# Altium schematic symbol library SWARMUS_LIB.SchLib: 181 symbols (part 3 of 4)
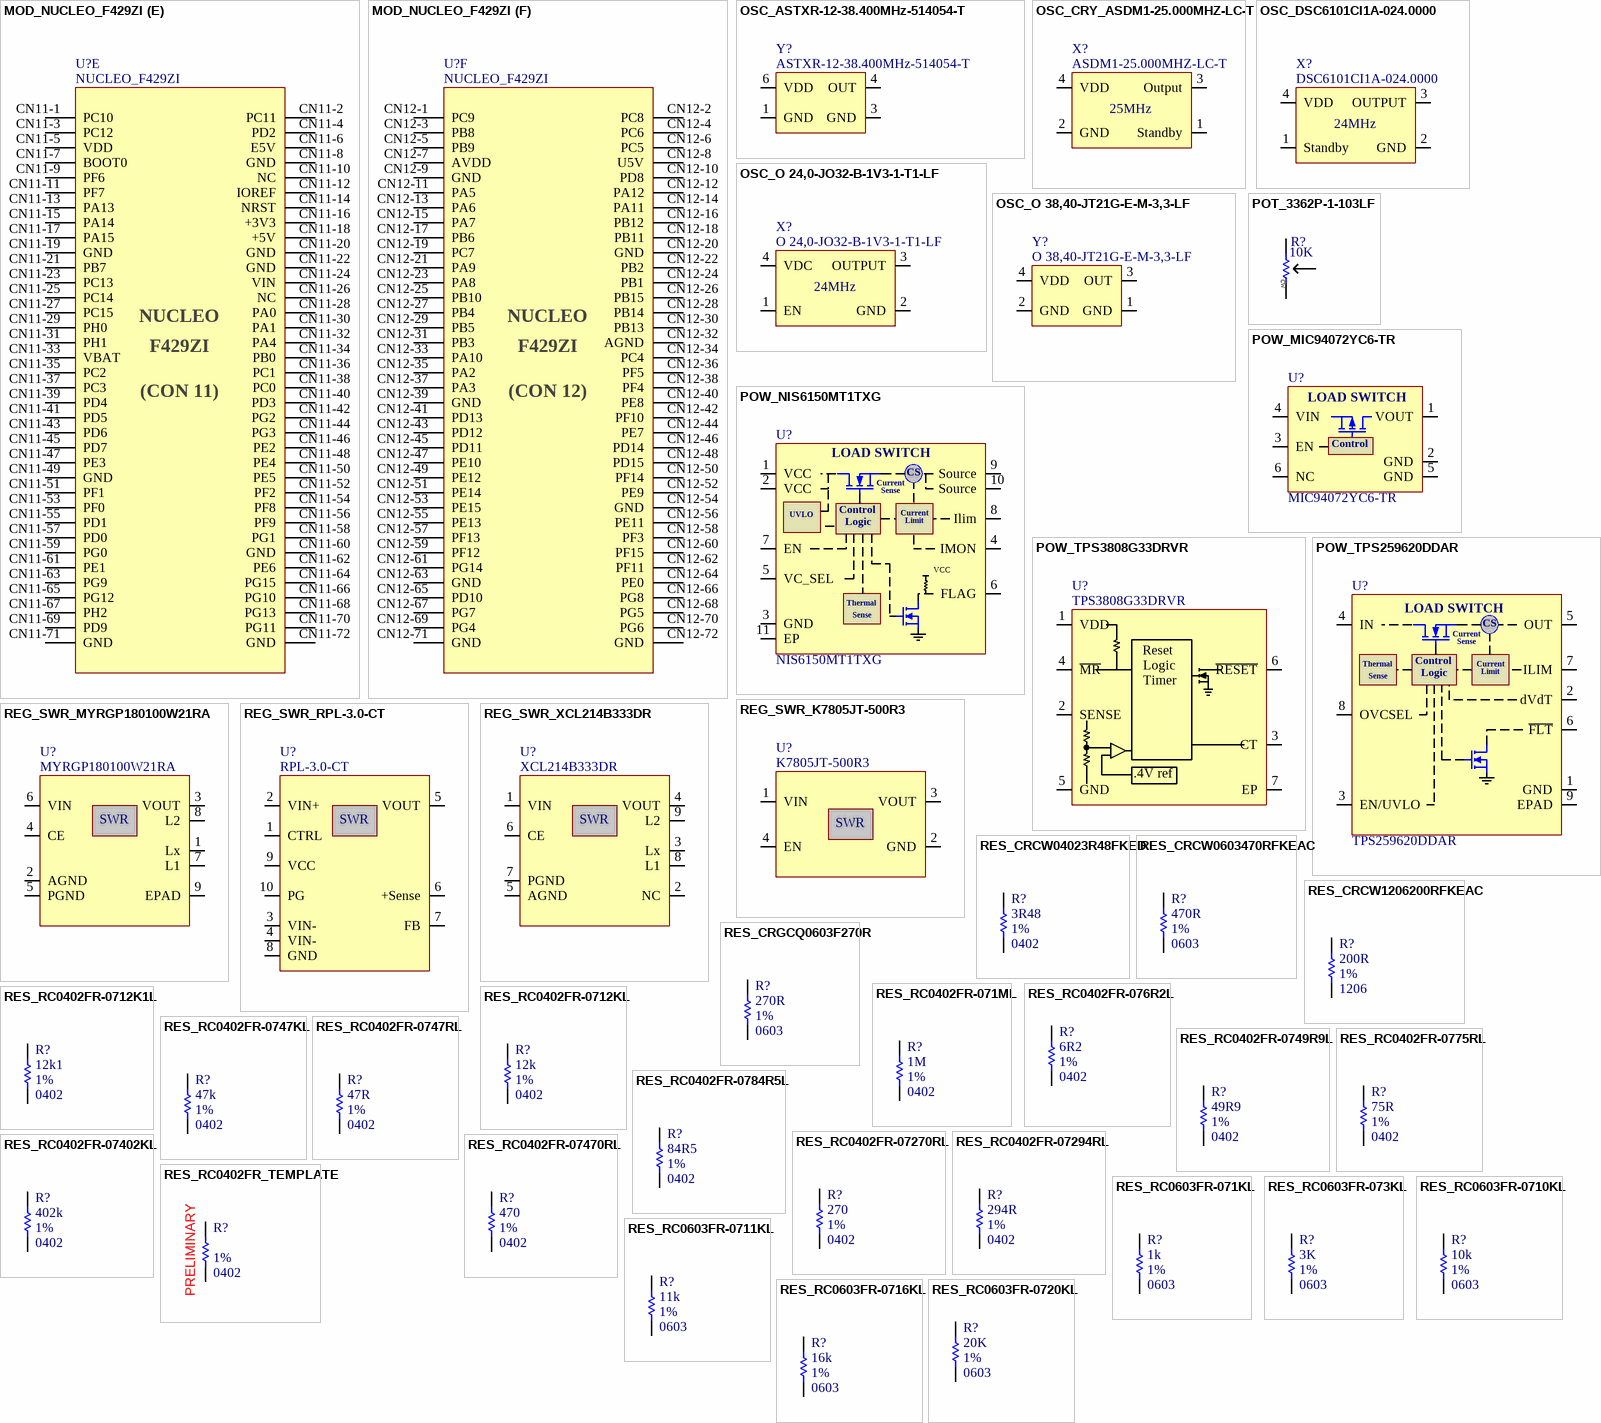
[diagram p8: symbols MOD_NUCLEO_F429ZI to RES_RC0603FR-0720KL]

## POT_3362P-1-103LF
designator R?, comment value 10K  (hidden comment: 3362P-1-103LF)
RES -  POT 10K 1/2W LINEAR PLASTIC 1 turn - TH; Manufacturer #1: Bourns Inc.; GRAMS Lib Spec: 2.8; Tolerance: 10%; Magnetic Material: Unknown; Polarized: YES; Voltage Rating: 500V; Assembly Type: TH; CreatedBy/Date: Louis-Daniel Gaulin / 24-02-2021; Current Rating: *; HelpURL: https://www.bourns.com/docs/Product-Datasheets/3362.pdf; Manufacturer #2: *; Note: *; Part Number #1: 3362P-1-103LF; Part Number #2: *; Power Max: 1/2W; Temperature: *; VerifiedBy: Hubert Dube - 26/02/2021; Supplier 1: Digi-Key; Supplier Part Number 1: 3362P-103LF-ND; Package: TH; Cryo: UNKNOWN
footprint POT_3362P-1-103LF
pins: 1, 2, 3
text: CW

## POW_MIC94072YC6-TR
designator U?, comment MIC94072YC6-TR
POW - Load switch 1.2A 120mOhm 1:1 P-Channel -  SC-70-6; Manufacturer #1: Microship Technology; Voltage Rating: 1.7V ~ 5.5V; GRAMS Lib Spec: 2.8c; Magnetic Material: Unknown; Polarized: Yes; Value: 120mOhm; Tolerance: *; Current Rating: 1.2A; Power Max: *; HelpURL: https://ww1.microchip.com/downloads/en/DeviceDoc/mic94070-3.pdf; CreatedBy/Date: Louis-Daniel Gaulin / 29-04-2021; VerifiedBy: Philippe Arsenault/2021-04-30; Temperature: -40°C ~ 125°C (TA); Package: SC-70-6; Manufacturer #2: *; Assembly Type: SMD; Part Number #2: *; Part Number #1: MIC94072YC6-TR; Cryo: UNKNOWN; Supplier 1: Digi-Key; Supplier Part Number 1: 576-3580-1-ND
footprint POW_MIC94072YC6-TR (SOT23, 6-Leads, Body 2.00x2.10mm, Pitch 0.65mm, IPC Medium Density)
pins: 1 VOUT, 2 GND, 3 EN, 4 VIN, 5 GND, 6 NC
text: LOAD SWITCH; Control

## POW_NIS6150MT1TXG
designator U?, comment NIS6150MT1TXG
POW -  Electronic Fuse Regulator 1A -  10-WDFNW; Manufacturer #1: On Semiconductor; Tolerance: See datasheet; Voltage Rating: -0.3V ~ 10V; GRAMS Lib Spec: 2.8c; Magnetic Material: Uknown; Polarized: Yes; Cryo: UNKNOWN; Value: *; Current Rating: 1A; Power Max: *; HelpURL: https://www.onsemi.com/pdf/datasheet/nis6150-d.pdf; CreatedBy/Date: Louis-Daniel Gaulin / 29-04-2021; VerifiedBy: Philippe Arsenault/2021-04-30; Temperature: -40°C ~ 125°C (TA); Package: 10-WDFNW; Manufacturer #2: *; Assembly Type: SMD; Part Number #2: *; Part Number #1: NIS6150MT1TXG; Supplier 1: DigiKey; Supplier Part Number 1: 488-NIS6150MT1TXGCT-ND
footprint POW_NIS6150MT1TXG (SON, 10-Leads, Body 3.00x3.00mm, Pitch 0.50mm, Thermal Pad 2.00x1.20mm, IPC Medium Density)
pins: 1 VCC, 2 VCC, 3 GND, 4 IMON, 5 VC_SEL, 6 FLAG, 7 EN, 8 Ilim, 9 Source, 10 Source, 11 EP
text: LOAD SWITCH; CS; Current; Sense; UVLO; Control; Logic; Limit; Thermal

## POW_TPS3808G33DRVR
designator U?, comment TPS3808G33DRVR
POW - Programmable-Delay Supervisory Circuit Open Drain - 6WSON; Manufacturer #1: Texas Instruments; Voltage Rating: 1.7V ~ 6.5V (VDD); 3.07V TH; Current Rating: 2.4uA; GRAMS Lib Spec: 2.8; Magnetic Material: Unknown; Polarized: Yes; Value: *; Tolerance: *; Power Max: *; HelpURL: http://www.ti.com/lit/ds/symlink/tps3808.pdf; CreatedBy/Date: Philippe Arsenault/2021-04-19; VerifiedBy: Louis-Daniel Gaulin / 29-04-2021; Temperature: -40°C ~ 125°C; Package: 6-WSON; Manufacturer #2: *; Assembly Type: SMD; Part Number #2: *; Part Number #1: TPS3808G33DRVR; Cryo: UNKNOWN; Supplier 1: Digi-Key; Supplier Part Number 1: 296-36792-1-ND
footprint POW_TPS3808G33DRVR (6-WSON)
pins: 1 VDD, 2 SENSE, 3 CT, 4 ~{MR}, 5 GND, 6 ~{RESET}, 7 EP
text: Reset; Logic; Timer; .4V ref

## POW_TPS259620DDAR
designator U?, comment TPS259620DDAR
POW -  Electronic Fuse Regulator 2A -  8-SOIC PowerPad; Manufacturer #1: Texas Instruments; Tolerance: See datasheet; Voltage Rating: 2.7V ~ 19V; GRAMS Lib Spec: 2.8c; Note: This footprint is compatible with the TPS259621 with no consideration. The footprint is also compatible with the TPS25963x by swaping EVCSEL with OVLO; Magnetic Material: Uknown; Polarized: Yes; Cryo: UNKNOWN; Value: *; Current Rating: 2A; Power Max: *; HelpURL: https://www.ti.com/lit/ds/symlink/tps2596.pdf?HQS=dis-dk-null-digikeymode-dsf-pf-null-wwe&ts=1617021475206; CreatedBy/Date: Louis-Daniel Gaulin / 29-03-2021; VerifiedBy: Philippe Arsenault/2021-03-31; Temperature: -40°C ~ 125°C (TA); Package: 8-SOIC PowerPad; Manufacturer #2: *; Assembly Type: SMD; Part Number #2: *; Part Number #1: TPS259620DDAR; Supplier 1: Digi-Key; Supplier Part Number 1: 296-TPS259620DDARCT-ND
footprint POW_TPS259620DDAR (SOIC, 8-Leads, Body 4.90x3.90mm, Pitch 1.27mm, Thermal Pad 3.10x2.40mm, IPC Medium Density)
pins: 1 GND, 2 dVdT, 3 EN/UVLO, 4 IN, 5 OUT, 6 ~{FLT}, 7 ILIM, 8 OVCSEL, 9 EPAD
text: LOAD SWITCH; CS; Current; Sense; Thermal; Control; Logic; Limit

## REG_SWR_K7805JT-500R3
designator U?, comment K7805JT-500R3
REG_DC DC CONVERTER 5V 2.5W - 4-SMD Module; Manufacturer #1: Mornsun America, LLC; Voltage Rating: 6.5V to 36V IN; Current Rating: 0.5A; GRAMS Lib Spec: 2.8; Magnetic Material: Unknown; Polarized: Yes; Value: 5V; Tolerance: *; Power Max: *; HelpURL: https://www.mornsun-power.com/html/pdf/K7805JT-500R3.html; CreatedBy/Date: Louis-Daniel Gaulin / 25-02-2021; VerifiedBy: Hubert Dube - 26/02/2021; Temperature: -40°C ~ 85°C; Package: 4-SMD Module; Manufacturer #2: *; Note: *; Assembly Type: SMD; Part Number #2: *; Part Number #1: K7805JT-500R3; Supplier 1: Digi-Key; Supplier Part Number 1: 2725-K7805JT-500R3CT-ND; Cryo: UNKNOWN
footprint REG_SWR_K7805JT-500R3
pins: 1 VIN, 2 GND, 3 VOUT, 4 EN
text: SWR

## REG_SWR_MYRGP180100W21RA
designator U?, comment MYRGP180100W21RA
REG_DC DC CONVERTER 1.8V 1.8W_8-PowerTDFN; Manufacturer #1: Murata Power Solutions Inc.; Voltage Rating: 2.5V to 5.5V IN; Current Rating: 1A; GRAMS Lib Spec: 2.8; Magnetic Material: Unknown; Polarized: Yes; Value: 1.8V; Tolerance: *; Power Max: *; HelpURL: https://www.murata.com/products/productdata/8807036026910/MYRGP-b-w.pdf?1583754814000; CreatedBy/Date: Louis-Daniel Gaulin / 21-07-2020; VerifiedBy: Philippe Arsenault/2020-11-06; Temperature: -40°C~105°C; Package: 8-PowerTDFN; Manufacturer #2: *; Note: *; Assembly Type: SMD; Part Number #2: *; Part Number #1: MYRGP180100W21RA; Supplier 1: Digi-Key; Supplier Part Number 1: 811-MYRGP180100W21RACT-ND; Cryo: UNKNOWN
footprint REG_SWR_MYRGP180100W21RA
pins: 1 Lx, 2 AGND, 3 VOUT, 4 CE, 5 PGND, 6 VIN, 7 L1, 8 L2, 9 EPAD
text: SWR

## REG_SWR_RPL-3.0-CT
designator U?, comment RPL-3.0-CT
REG_DC DC CONVERTER 3~18V input 0.8~5.2V output 3A - 10-SMD; Manufacturer #1: Recom Power; Voltage Rating: 3~18V (IN), 0.8~5.2V (OUT); GRAMS Lib Spec: 2.8c; Magnetic Material: Unknown; Polarized: Yes; Value: *; Tolerance: *; Current Rating: 3A; Power Max: *; HelpURL: https://recom-power.com/pdf/Innoline/RPL-3.0.pdf; CreatedBy/Date: Louis-Daniel Gaulin / 11-04-2021; VerifiedBy: Philippe Arsenault/2021-04-14; Temperature: -40°C~125°C; Package: 10-SMD; Manufacturer #2: *; Note: *; Assembly Type: SMD; Part Number #2: *; Part Number #1: Recom Power; Cryo: UNKNOWN; Supplier 1: Digi-Key; Supplier Part Number 1: 945-RPL-3.0-CT-ND
footprint REG_SWR_RPL-3.0-CT
pins: 1 CTRL, 2 VIN+, 3 VIN-, 4 VIN-, 5 VOUT, 6 +Sense, 7 FB, 8 GND, 9 VCC, 10 PG
text: SWR

## REG_SWR_XCL214B333DR
designator U?, comment XCL214B333DR
REG_DC DC CONVERTER 3.3V 5W_9-PowerTFQFN; Manufacturer #1: Torex Semiconductor Ltd; Voltage Rating: 2.7V to 5.5V IN; Current Rating: 1.5A; GRAMS Lib Spec: 2.8; Magnetic Material: Unknown; Polarized: Yes; Value: 3.3V; Tolerance: *; Power Max: *; HelpURL: https://www.torexsemi.com/file/xcl213/XCL213-XCL214.pdf; CreatedBy/Date: Louis-Daniel Gaulin / 21-07-2020; VerifiedBy: Philippe Arsenault/2020-11-06; Temperature: -40°C ~ 105°C; Package: 9-PowerTFQFN; Manufacturer #2: *; Note: *; Assembly Type: SMD; Part Number #2: *; Part Number #1: XCL214B333DR; Supplier 1: Digi-Key; Supplier Part Number 1: 893-1218-1-ND; Cryo: UNKNOWN
footprint REG_SWR_XCL214B333DR
pins: 1 VIN, 2 NC, 3 Lx, 4 VOUT, 5 AGND, 6 CE, 7 PGND, 8 L1, 9 L2
text: SWR

## RES_CRCW04023R48FKED
designator R?, comment value 3R48  Tolerance: 1%  Package: 0402  (hidden comment: CRCW04023R48FKED)
RES - 3.48 R ±1% 1/16W -  0402; Manufacturer #1: Vishay Dale; GRAMS Lib Spec: 2.8c; Magnetic Material: Unknown; Polarized: No; Voltage Rating: 50V; Assembly Type: SMD; CreatedBy/Date: Louis-Daniel Gaulin / 2021-05-01; Current Rating: *; HelpURL: https://www.vishay.com/docs/20035/dcrcwe3.pdf; Manufacturer #2: *; Note: *; Part Number #1: CRCW04023R48FKED; Part Number #2: *; Power Max: 1/16W; Temperature: -55°C ~ 155°C; VerifiedBy: Philippe Arsenault/2021-05-10; Supplier 1: Digi-Key; Supplier Part Number 1: 541-3.48LLCT-ND
footprint RES_0402 (Resistor - 0402)
pins: 1, 2

## RES_CRCW0603470RFKEAC
designator R?, comment value 470R  Tolerance: 1%  Package: 0603  (hidden comment: CRCW0603470RFKEAC)
RES - 470R 1% 1/10W - 0603; Manufacturer #1: Vishay Dale; GRAMS Lib Spec: 2.8; Magnetic Material: Unknown; Polarized: No; Voltage Rating: 75V; Assembly Type: SMD; CreatedBy/Date: Philippe Arsenault/2020-07-14; Current Rating: *; HelpURL: https://www.vishay.com/docs/28773/crcwce3.pdf; Manufacturer #2: *; Note: *; Part Number #1: CRCW0603470RFKEAC; Part Number #2: *; Power Max: 1/10W; Temperature: -55°C ~ 155°C; VerifiedBy: Louis-Daniel Gaulin / 2020-07-22; Supplier 1: Digi-Key; Supplier Part Number 1: 541-4038-1-ND
footprint RES_0603 (Resistor - 0603)
pins: 1, 2

## RES_CRCW1206200RFKEAC
designator R?, comment value 200R  Tolerance: 1%  Package: 1206  (hidden comment: CRCW1206200RFKEAC)
RES - 200R 1% 1/4W - 1206; Manufacturer #1: Vishay Dale; GRAMS Lib Spec: 2.8; Magnetic Material: Unknown; Polarized: No; Voltage Rating: 75V; Assembly Type: SMD; CreatedBy/Date: Louis-Daniel Gaulin / 26-02-2021; Current Rating: *; HelpURL: https://www.vishay.com/docs/28773/crcwce3.pdf; Manufacturer #2: *; Note: *; Part Number #1: CRCW1206200RFKEAC; Part Number #2: *; Power Max: 1/4W; Temperature: -55°C ~ 155°C; VerifiedBy: Hubert Dubé/ 26-02-2021; Supplier 1: Digi-Key; Supplier Part Number 1: 541-4176-1-ND
footprint RES_1206 (Resistor - 1206)
pins: 1, 2

## RES_CRGCQ0603F270R
designator R?, comment value 270R  Tolerance: 1%  Package: 0603  (hidden comment: CRGCQ0603F270R)
RES - 270R 1% 1/10W - 0603; Manufacturer #1: TE Connectivity Passive Product; GRAMS Lib Spec: 2.8; Magnetic Material: Unknown; Polarized: No; Voltage Rating: 75V; Assembly Type: SMD; CreatedBy/Date: Philippe Arsenault/2020-07-22; Current Rating: *; HelpURL: https://www.te.com/commerce/DocumentDelivery/DDEController?Action=srchrtrv&DocNm=1773204-3&DocType=DS&DocLang=English; Manufacturer #2: *; Note: *; Part Number #1: CRGCQ0603F270R; Part Number #2: *; Power Max: 1/10W; Temperature: -55°C ~ 155°C; VerifiedBy: Louis-Daniel Gaulin / 2020-07-23; Supplier 1: Digi-Key; Supplier Part Number 1: A129681CT-ND
footprint RES_0603 (Resistor - 0603)
pins: 1, 2

## RES_RC0402FR-071ML
designator R?, comment value 1M  Tolerance: 1%  Package: 0402  (hidden comment: RC0402FR-071ML)
RES - 1 MOhms ±1% 0.063W, 1/16W Chip Resistor 0402 (1005 Metric) Moisture Resistant Thick Film; Manufacturer #1: Yageo; GRAMS Lib Spec: 2.8c; Magnetic Material: Unknown; Polarized: No; Voltage Rating: 50V; Assembly Type: SMD; CreatedBy/Date: Hubert Dube 16/03/2021; Current Rating: *; HelpURL: https://www.yageo.com/upload/media/product/productsearch/datasheet/rchip/PYu-RC_Group_51_RoHS_L_11.pdf; Manufacturer #2: *; Note: *; Part Number #1: RC0402FR-071ML; Part Number #2: *; Power Max: 1/16W; Temperature: -55°C ~ 155°C; VerifiedBy: Philippe Arsenault - 2021/03/16; Supplier 1: Digi-Key; Supplier Part Number 1: 311-1.00MLRCT-ND
footprint RES_0402 (Resistor - 0402)
pins: 1, 2

## RES_RC0402FR-076R2L
designator R?, comment value 6R2  Tolerance: 1%  Package: 0402  (hidden comment: RC0402FR-076R2L)
RES - 6.2R 1% 1/16W - 0402; Manufacturer #1: Yageo; Part Number #1: RC0402JR-076R2L; GRAMS Lib Spec: 2.8c; Magnetic Material: Unknown; Polarized: No; Voltage Rating: 50V; Assembly Type: SMD; CreatedBy/Date: Hubert Dubé 04/10/2020; Current Rating: *; HelpURL: https://www.yageo.com/upload/media/product/productsearch/datasheet/rchip/PYu-RC_Group_51_RoHS_L_11.pdf; Manufacturer #2: *; Note: *; Part Number #2: *; Power Max: 1/16W; Temperature: -55°C ~ 155°C; VerifiedBy: Louis-Daniel Gaulin - 09/11/2020; Supplier 1: Digi-Key; Supplier Part Number 1: 13-RC0402FR-076R2LCT-ND
footprint RES_0402 (Resistor - 0402)
pins: 1, 2

## RES_RC0402FR-0712K1L
designator R?, comment value 12k1  Tolerance: 1%  Package: 0402  (hidden comment: RC0402FR-0712K1L)
RES - 12K1 ±1% 1/16W - 0402; Manufacturer #1: Yageo; GRAMS Lib Spec: 2.8c; Magnetic Material: Unknown; Polarized: No; Voltage Rating: 50V; Assembly Type: SMD; CreatedBy/Date: Hubert Dubé - 7/02/2020; Current Rating: *; HelpURL: https://www.yageo.com/upload/media/product/productsearch/datasheet/rchip/PYu-RC_Group_51_RoHS_L_11.pdf; Manufacturer #2: *; Note: *; Part Number #1: RC0402FR-0712K1L; Part Number #2: *; Power Max: 1/16W; Temperature: -55°C ~ 155°C; VerifiedBy: Philippe Arsenault/2021-02-08; Supplier 1: Digi-Key; Supplier Part Number 1: 311-12.1KLRCT-ND
footprint RES_0402 (Resistor - 0402)
pins: 1, 2

## RES_RC0402FR-0712KL
designator R?, comment value 12k  Tolerance: 1%  Package: 0402  (hidden comment: RC0402FR-0712KL)
RES - 12k Ohms ±1% 0.063W, 1/16W Chip Resistor 0402 (1005 Metric) Moisture Resistant Thick Film; Manufacturer #1: Yageo; GRAMS Lib Spec: 2.8c; Magnetic Material: Unknown; Polarized: No; Voltage Rating: 50V; Assembly Type: SMD; CreatedBy/Date: Philippe Arsenault/2021-03-11; Current Rating: *; HelpURL: https://www.yageo.com/upload/media/product/productsearch/datasheet/rchip/PYu-RC_Group_51_RoHS_L_11.pdf; Manufacturer #2: *; Note: *; Part Number #1: RC0402FR-0712KL; Part Number #2: *; Power Max: 1/16W; Temperature: -55°C ~ 155°C; VerifiedBy: Hubert Dube - 19/03/2021; Supplier 1: Digi-Key; Supplier Part Number 1: 311-12.0KLRCT-ND
footprint RES_0402 (Resistor - 0402)
pins: 1, 2

## RES_RC0402FR-0747KL
designator R?, comment value 47k  Tolerance: 1%  Package: 0402  (hidden comment: RC0402FR-0747KL)
RES - 47k ±1% 1/16W - 0402; Manufacturer #1: Yageo; GRAMS Lib Spec: 2.8; Magnetic Material: Unknown; Polarized: No; Voltage Rating: 50V; Assembly Type: SMD; CreatedBy/Date: Louis-Daniel Gaulin / 11-04-2021; Current Rating: *; HelpURL: https://www.yageo.com/upload/media/product/productsearch/datasheet/rchip/PYu-RC_Group_51_RoHS_L_11.pdf; Manufacturer #2: *; Note: *; Part Number #1: RC0402FR-0747KL; Part Number #2: *; Power Max: 1/16W; Temperature: -55°C ~ 155°C; VerifiedBy: Philippe Arsenault/2021-04-14; Supplier 1: Digi-Key; Supplier Part Number 1: 311-47.0KLRCT-ND
footprint RES_0402 (Resistor - 0402)
pins: 1, 2

## RES_RC0402FR-0747RL
designator R?, comment value 47R  Tolerance: 1%  Package: 0402  (hidden comment: RC0402FR-0747RL)
RES -  47ohm ±1% 0.063W, 1/16W Chip Resistor 0402; Manufacturer #1: Yageo; GRAMS Lib Spec: 2.8; Magnetic Material: Unknown; Polarized: No; Voltage Rating: 50V; Assembly Type: SMD; CreatedBy/Date: Philippe Arsenault/2021-04-10; Current Rating: *; HelpURL: https://www.yageo.com/upload/media/product/productsearch/datasheet/rchip/PYu-RC_Group_51_RoHS_L_11.pdf; Manufacturer #2: *; Note: *; Part Number #1: RC0402FR-0747RL; Part Number #2: *; Power Max: 1/16W; Temperature: -55°C ~ 155°C; VerifiedBy: Louis-Daniel Gaulin / 14-04-2021; Supplier 1: Digi-Key; Supplier Part Number 1: 311-47.0LRCT-ND
footprint RES_0402 (Resistor - 0402)
pins: 1, 2

## RES_RC0402FR-0749R9L
designator R?, comment value 49R9  Tolerance: 1%  Package: 0402  (hidden comment: RC0402FR-0749R9L)
RES - 49.9 R ±1% 1/16W -  0402; Manufacturer #1: Yageo; GRAMS Lib Spec: 2.8c; Magnetic Material: Unknown; Polarized: No; Voltage Rating: 50V; Assembly Type: SMD; CreatedBy/Date: Hubert Dubé - 3/02/2020; Current Rating: *; HelpURL: https://www.yageo.com/upload/media/product/productsearch/datasheet/rchip/PYu-RC_Group_51_RoHS_L_11.pdf; Manufacturer #2: *; Note: *; Part Number #1: RC0402FR-0749R9L; Part Number #2: *; Power Max: 1/16W; Temperature: -55°C ~ 155°C; VerifiedBy: Philippe Arsenault/2021-02-08; Supplier 1: Digi-Key; Supplier Part Number 1: 311-49.9LRCT-ND
footprint RES_0402 (Resistor - 0402)
pins: 1, 2

## RES_RC0402FR-0775RL
designator R?, comment value 75R  Tolerance: 1%  Package: 0402  (hidden comment: RC0402FR-0775RL)
RES - 75 Ohms ±1% 0.063W, 1/16W Chip Resistor 0402 (1005 Metric); Manufacturer #1: Yageo; GRAMS Lib Spec: 2.8c; Magnetic Material: Unknown; Polarized: No; Voltage Rating: 50V; Assembly Type: SMD; CreatedBy/Date: Hubert Dubé - 3/02/2020; Current Rating: *; HelpURL: https://www.yageo.com/upload/media/product/productsearch/datasheet/rchip/PYu-RC_Group_51_RoHS_L_11.pdf; Manufacturer #2: *; Note: *; Part Number #1: RC0402FR-0775RL; Part Number #2: *; Power Max: 1/16W; Temperature: -55°C ~ 155°C; VerifiedBy: Philippe Arsenault/ 8/2/2021; Supplier 1: Digi-Key; Supplier Part Number 1: 311-75.0LRCT-ND
footprint RES_0402 (Resistor - 0402)
pins: 1, 2

## RES_RC0402FR-0784R5L
designator R?, comment value 84R5  Tolerance: 1%  Package: 0402  (hidden comment: RC0402FR-0784R5L)
RES - 84R5 1% 1/16W - 0402; Manufacturer #1: Yageo; GRAMS Lib Spec: 2.8c; Magnetic Material: Unknown; Polarized: No; Voltage Rating: 50V; Assembly Type: SMD; CreatedBy/Date: Philippe Arsenault/ 2021-03-31; Current Rating: *; HelpURL: https://www.yageo.com/upload/media/product/productsearch/datasheet/rchip/PYu-RC_Group_51_RoHS_L_11.pdf; Manufacturer #2: *; Note: *; Part Number #1: RC0402FR-0784R5L; Part Number #2: *; Power Max: 1/16W; Temperature: -55°C ~ 155°C; Supplier 1: Digi-Key; Supplier Part Number 1: YAG3246CT-ND
footprint RES_0402 (Resistor - 0402)
pins: 1, 2

## RES_RC0402FR-07270RL
designator R?, comment value 270  Tolerance: 1%  Package: 0402  (hidden comment: RC0402FR-07270RL)
RES - 270R 1% 1/16W - 0402; Manufacturer #1: Yageo; GRAMS Lib Spec: 2.8c; Magnetic Material: Unknown; Polarized: No; Voltage Rating: 50V; Assembly Type: SMD; CreatedBy/Date: Philippe Arsenault 2020-07-24; Current Rating: *; HelpURL: https://www.yageo.com/upload/media/product/productsearch/datasheet/rchip/PYu-RC_Group_51_RoHS_L_10.pdf; Manufacturer #2: *; Note: *; Part Number #1: RC0402FR-07270RL; Part Number #2: *; Power Max: 1/16W; Temperature: -55°C ~ 155°C; VerifiedBy: Louis-Daniel Gaulin / 03-10-2020; Supplier 1: Digi-Key; Supplier Part Number 1: 311-270LRCT-ND
footprint FER_0402 (Ferrite - 0402)
pins: 1, 2

## RES_RC0402FR-07294RL
designator R?, comment value 294R  Tolerance: 1%  Package: 0402  (hidden comment: RC0402FR-07294RL)
RES - 294 Ohms ±1% 0.063W, 1/16W Chip Resistor 0402 (1005 Metric) Moisture Resistant Thick Film; Manufacturer #1: Yageo; GRAMS Lib Spec: 2.8c; Magnetic Material: Unknown; Polarized: No; Voltage Rating: 50V; Assembly Type: SMD; CreatedBy/Date: Philippe Arsenault/2021-03-11; Current Rating: *; HelpURL: https://www.yageo.com/upload/media/product/productsearch/datasheet/rchip/PYu-RC_Group_51_RoHS_L_11.pdf; Manufacturer #2: *; Note: *; Part Number #1: RC0402FR-07294RL; Part Number #2: *; Power Max: 1/16W; Temperature: -55°C ~ 155°C; VerifiedBy: Hubert Dube - 19/03/2021; Supplier 1: Digi-Key; Supplier Part Number 1: YAG3093CT-ND
footprint RES_0402 (Resistor - 0402)
pins: 1, 2

## RES_RC0402FR-07402KL
designator R?, comment value 402k  Tolerance: 1%  Package: 0402  (hidden comment: RC0402FR-07402KL)
RES - 402k ±1% 1/16W - 0402; Manufacturer #1: Yageo; GRAMS Lib Spec: 2.8c; Magnetic Material: Unknown; Polarized: No; Voltage Rating: 50V; Assembly Type: SMD; CreatedBy/Date: Louis-Daniel Gaulin / 03-31-2021; Current Rating: *; HelpURL: https://www.yageo.com/upload/media/product/productsearch/datasheet/rchip/PYu-RC_Group_51_RoHS_L_11.pdf; Manufacturer #2: *; Note: *; Part Number #1: RC0402FR-07402KL; Part Number #2: *; Power Max: 1/16W; Temperature: -55°C ~ 155°C; VerifiedBy: Philippe Arsenault/2021-03-31; Supplier 1: Digi-Key; Supplier Part Number 1: YAG3151CT-ND
footprint RES_0402 (Resistor - 0402)
pins: 1, 2

## RES_RC0402FR-07470RL
designator R?, comment value 470  Tolerance: 1%  Package: 0402  (hidden comment: RC0402FR-07470RL)
RES - 470R 1% 1/16W - 0402; Manufacturer #1: Yageo; GRAMS Lib Spec: 2.8c; Magnetic Material: Unknown; Polarized: No; Voltage Rating: 50V; Assembly Type: SMD; CreatedBy/Date: Philippe Arsenault 2020-07-24; Current Rating: *; HelpURL: https://www.yageo.com/upload/media/product/productsearch/datasheet/rchip/PYu-RC_Group_51_RoHS_L_10.pdf; Manufacturer #2: *; Note: *; Part Number #1: RC0402FR-07470RL; Part Number #2: *; Power Max: 1/16W; Temperature: -55°C ~ 155°C; VerifiedBy: Louis-Daniel Gaulin / 03-10-2020; Supplier 1: Digi-Key; Supplier Part Number 1: 311-470LRCT-ND
footprint RES_0402 (Resistor - 0402)
pins: 1, 2

## RES_RC0402FR_TEMPLATE
designator R?, comment Tolerance: 1%  Package: 0402  (hidden comment: RC0402FR- XXXXX)
RES - XXXX 1% 1/16W - 0402; Manufacturer #1: Yageo; GRAMS Lib Spec: 2.8c; Magnetic Material: Unknown; Polarized: No; Voltage Rating: 50V; Assembly Type: SMD; CreatedBy/Date: Louis-Daniel Gaulin; Current Rating: *; Manufacturer #2: *; Note: *; Part Number #2: *; Power Max: 1/16W; Temperature: -55°C ~ 155°C; Supplier 1: Digi-Key
footprint RES_0402 (Resistor - 0402)
pins: 1, 2
text: PRELIMINARY

## RES_RC0603FR-071KL
designator R?, comment value 1k  Tolerance: 1%  Package: 0603  (hidden comment: RC0603FR-071KL)
RES - 1k 1% 1/10W - 0603; Manufacturer #1: Yageo; GRAMS Lib Spec: 2.8; Magnetic Material: Unknown; Polarized: No; Voltage Rating: 75V; Assembly Type: SMD; CreatedBy/Date: Hubert Dube / 22-07-21; Current Rating: *; HelpURL: https://www.yageo.com/upload/media/product/productsearch/datasheet/rchip/PYu-RC_Group_51_RoHS_L_11.pdf; Manufacturer #2: *; Note: *; Part Number #1: RC0603FR-071KL; Part Number #2: *; Power Max: 1/10W; Temperature: -55°C ~ 155°C; VerifiedBy: Louis-Daniel Gaulin / 2020-07-23; Supplier 1: Digi-Key; Supplier Part Number 1: 311-1.00KHRCT-ND
footprint RES_0603 (Resistor - 0603)
pins: 1, 2

## RES_RC0603FR-073KL
designator R?, comment value 3K  Tolerance: 1%  Package: 0603  (hidden comment: RC0603FR-073KL)
RES - 3k 1% 1/10W - 0603; Manufacturer #1: Yageo; GRAMS Lib Spec: 2.8; Magnetic Material: Unknown; Polarized: No; Voltage Rating: 75V; Assembly Type: SMD; CreatedBy/Date: Louis-Daniel Gaulin / 24-02-2021; Current Rating: *; HelpURL: https://www.yageo.com/upload/media/product/productsearch/datasheet/rchip/PYu-RC_Group_51_RoHS_L_11.pdf; Manufacturer #2: *; Note: *; Part Number #1: RC0603FR-073KL; Part Number #2: *; Power Max: 1/10W; Temperature: -55°C ~ 155°C; VerifiedBy: Hubert Dube - 26/02/2021; Supplier 1: Digi-Key; Supplier Part Number 1: 311-3.00KHRCT-ND
footprint RES_0603 (Resistor - 0603)
pins: 1, 2

## RES_RC0603FR-0710KL
designator R?, comment value 10k  Tolerance: 1%  Package: 0603  (hidden comment: RC0603FR-0710KL)
RES - 10k 1% 1/10W - 0603; Manufacturer #1: Yageo; GRAMS Lib Spec: 2.8; Magnetic Material: Unknown; Polarized: No; Voltage Rating: 75V; Assembly Type: SMD; CreatedBy/Date: Louis-Daniel Gaulin / 24-02-2021; Current Rating: *; HelpURL: https://www.yageo.com/upload/media/product/productsearch/datasheet/rchip/PYu-RC_Group_51_RoHS_L_11.pdf; Manufacturer #2: *; Note: *; Part Number #1: RC0603FR-0710KL; Part Number #2: *; Power Max: 1/10W; Temperature: -55°C ~ 155°C; VerifiedBy: Hubert Dube - 26/02/2021; Supplier 1: Digi-Key; Supplier Part Number 1: 311-10.0KHRCT-ND
footprint RES_0603 (Resistor - 0603)
pins: 1, 2

## RES_RC0603FR-0711KL
designator R?, comment value 11k  Tolerance: 1%  Package: 0603  (hidden comment: RC0603FR-0711KL)
RES - 11k 1% 1/10W - 0603; Manufacturer #1: Yageo; GRAMS Lib Spec: 2.8; Magnetic Material: Unknown; Polarized: No; Voltage Rating: 75V; Assembly Type: SMD; CreatedBy/Date: Philippe Arsenault/2020-07-14; Current Rating: *; HelpURL: https://www.yageo.com/upload/media/product/productsearch/datasheet/rchip/PYu-RC_Group_51_RoHS_L_10.pdf; Manufacturer #2: *; Note: *; Part Number #1: RC0603FR-0711KL; Part Number #2: *; Power Max: 1/10W; Temperature: -55°C ~ 155°C; VerifiedBy: Louis-Daniel Gaulin / 2020-07-22; Supplier 1: Digi-Key; Supplier Part Number 1: 311-11.0KHRCT-ND
footprint RES_0603 (Resistor - 0603)
pins: 1, 2

## RES_RC0603FR-0716KL
designator R?, comment value 16k  Tolerance: 1%  Package: 0603  (hidden comment: RC0603FR-0716KL)
RES - 16k 1% 1/10W - 0603; Manufacturer #1: Yageo; GRAMS Lib Spec: 2.8; Magnetic Material: Unknown; Polarized: No; Voltage Rating: 75V; Assembly Type: SMD; CreatedBy/Date: Philippe Arsenault/2020-07-22; Current Rating: *; HelpURL: https://www.yageo.com/upload/media/product/productsearch/datasheet/rchip/PYu-RC_Group_51_RoHS_L_10.pdf; Manufacturer #2: *; Note: *; Part Number #1: RC0603FR-0716KL; Part Number #2: *; Power Max: 1/10W; Temperature: -55°C ~ 155°C; VerifiedBy: Louis-Daniel Gaulin / 2020-07-23; Supplier 1: Digi-Key; Supplier Part Number 1: 311-16.0KHRCT-ND
footprint RES_0603 (Resistor - 0603)
pins: 1, 2

## RES_RC0603FR-0720KL
designator R?, comment value 20K  Tolerance: 1%  Package: 0603  (hidden comment: RC0603FR-0720KL)
RES - 20K 1% 1/10W - 0603; Manufacturer #1: Yageo; GRAMS Lib Spec: 2.8; Magnetic Material: Unknown; Polarized: No; Voltage Rating: 75V; Assembly Type: SMD; CreatedBy/Date: Hubert Dube / 20-07-20; Current Rating: *; HelpURL: https://www.yageo.com/upload/media/product/productsearch/datasheet/rchip/PYu-RC_Group_51_RoHS_L_11.pdf; Manufacturer #2: *; Note: *; Part Number #1: RC0603FR-0720KL; Part Number #2: *; Power Max: 1/10W; Temperature: -55°C ~ 155°C; VerifiedBy: Louis-Daniel Gaulin - 21/07/20; Supplier 1: Digi-Key; Supplier Part Number 1: 311-20.0KHRCT-ND
footprint RES_0603 (Resistor - 0603)
pins: 1, 2

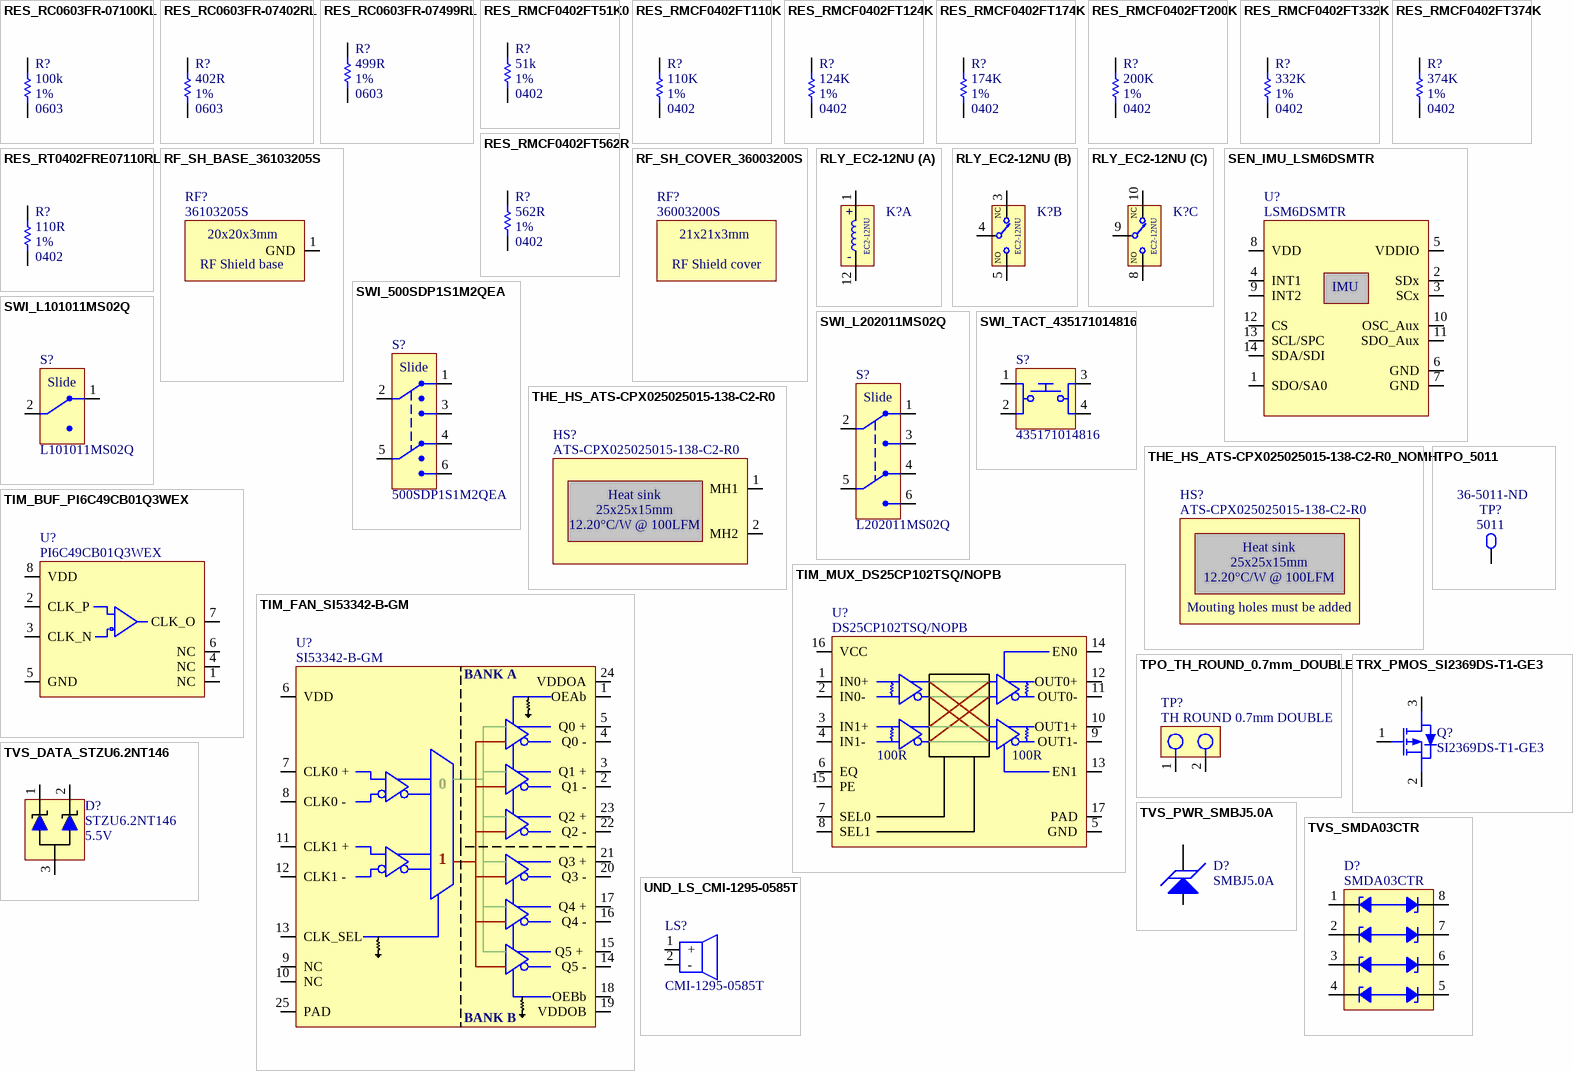
[diagram p5: symbols RES_RC0603FR-07100KL to UND_LS_CMI-1295-0585T]

## RES_RC0603FR-07100KL
designator R?, comment value 100k  Tolerance: 1%  Package: 0603  (hidden comment: RC0603FR-07100KL)
RES - 100k 1% 1/10W - 0603; Manufacturer #1: Yageo; GRAMS Lib Spec: 2.8; Magnetic Material: Unknown; Polarized: No; Voltage Rating: 75V; Assembly Type: SMD; CreatedBy/Date: Louis-Daniel Gaulin / 24-02-2021; Current Rating: *; HelpURL: https://www.yageo.com/upload/media/product/productsearch/datasheet/rchip/PYu-RC_Group_51_RoHS_L_11.pdf; Manufacturer #2: *; Note: *; Part Number #1: RC0603FR-07100KL; Part Number #2: *; Power Max: 1/10W; Temperature: -55°C ~ 155°C; VerifiedBy: Hubert Dube; Supplier 1: Digi-Key; Supplier Part Number 1: 311-100KHRCT-ND
footprint RES_0603 (Resistor - 0603)
pins: 1, 2

## RES_RC0603FR-07402RL
designator R?, comment value 402R  Tolerance: 1%  Package: 0603  (hidden comment: RC0603FR-07402RL)
RES - 402R 1% 1/10W - 0603; Manufacturer #1: Yageo; GRAMS Lib Spec: 2.8; Magnetic Material: Unknown; Polarized: No; Voltage Rating: 75V; Assembly Type: SMD; CreatedBy/Date: Louis-Daniel Gaulin / 24-02-2021; Current Rating: *; HelpURL: https://www.yageo.com/upload/media/product/productsearch/datasheet/rchip/PYu-RC_Group_51_RoHS_L_11.pdf; Manufacturer #2: *; Note: *; Part Number #1: RC0603FR-07402RL; Part Number #2: *; Power Max: 1/10W; Temperature: -55°C ~ 155°C; VerifiedBy: Hubert Dube - 26/02/2021; Supplier 1: Digi-Key; Supplier Part Number 1: 311-402HRCT-ND
footprint RES_0603 (Resistor - 0603)
pins: 1, 2

## RES_RC0603FR-07499RL
designator R?, comment value 499R  Tolerance: 1%  Package: 0603  (hidden comment: RC0603FR-07499RL)
RES - 499R 1% 1/10W - 0603; Manufacturer #1: Yageo; GRAMS Lib Spec: 2.8; Magnetic Material: Unknown; Polarized: No; Voltage Rating: 75V; Assembly Type: SMD; CreatedBy/Date: Hubert Dube / 20-07-20; Current Rating: *; HelpURL: https://www.yageo.com/upload/media/product/productsearch/datasheet/rchip/PYu-RC_Group_51_RoHS_L_11.pdf; Manufacturer #2: *; Note: *; Part Number #1: RC0603FR-07499RL; Part Number #2: *; Power Max: 1/10W; Temperature: -55°C ~ 155°C; VerifiedBy: Louis-Daniel Gaulin - 21/07/20; Supplier 1: Digi-Key; Supplier Part Number 1: 311-499HRCT-ND
footprint RES_0603 (Resistor - 0603)
pins: 1, 2

## RES_RMCF0402FT51K0
designator R?, comment value 51k  Tolerance: 1%  Package: 0402  (hidden comment: RMCF0402FT51K0)
RES - 51k ±1% 1/16W - 0402; Manufacturer #1: Stackpole Electronics Inc; Part Number #1: RMCF0402FT51K0TR; GRAMS Lib Spec: 2.8c; Magnetic Material: Unknown; Polarized: No; Voltage Rating: 50V; Assembly Type: SMD; CreatedBy/Date: Hubert Dubé - 25/02/2020; Current Rating: *; HelpURL: https://www.seielect.com/catalog/sei-rmcf_rmcp.pdf; Manufacturer #2: *; Note: *; Part Number #2: *; Power Max: 1/16W; Temperature: -55°C ~ 155°C; VerifiedBy: Philippe Arsenault/ 2021-03-14; Supplier 1: Digi-Key; Supplier Part Number 1: RMCF0402FT51K0CT-ND
footprint RES_0402 (Resistor - 0402)
pins: 1, 2

## RES_RMCF0402FT110K
designator R?, comment value 110K  Tolerance: 1%  Package: 0402  (hidden comment: RMCF0402FT110K)
RES - 110K ±1% 0.063W, 1/16W Chip Resistor 0402; Manufacturer #1: Stackpole Electronics Inc; GRAMS Lib Spec: 2.8c; Magnetic Material: Unknown; Polarized: No; Voltage Rating: 50V; Assembly Type: SMD; CreatedBy/Date: Philippe Arsenault/2021-04-02; Current Rating: *; HelpURL: https://www.seielect.com/catalog/sei-rmcf_rmcp.pdf; Manufacturer #2: *; Note: *; Part Number #1: RMCF0402FT110K; Part Number #2: *; Power Max: 1/16W; Temperature: -55°C ~ 155°C; Supplier 1: Digi-Key; Supplier Part Number 1: RMCF0402FT110KCT-ND
footprint RES_0402 (Resistor - 0402)
pins: 1, 2

## RES_RMCF0402FT124K
designator R?, comment value 124K  Tolerance: 1%  Package: 0402  (hidden comment: RMCF0402FT124K)
RES -  124k ±1% 0.063W, 1/16W Chip Resistor 0402 (1005 Metric) Automotive AEC-Q200 Thick Film; Manufacturer #1: Stackpole Electronics Inc.; GRAMS Lib Spec: 2.8; Magnetic Material: Unknown; Polarized: No; Voltage Rating: 50V; Assembly Type: SMD; CreatedBy/Date: Philippe Arsenault/2021-04-11; Current Rating: *; HelpURL: https://www.seielect.com/catalog/sei-rmcf_rmcp.pdf; Manufacturer #2: *; Note: *; Part Number #1: RMCF0402FT124K; Part Number #2: *; Power Max: 1/16W; Temperature: -55°C ~ 155°C; VerifiedBy: Louis-Daniel Gaulin / 14-04-2021; Supplier 1: Digi-Key; Supplier Part Number 1: RMCF0402FT124KCT-ND
footprint RES_0402 (Resistor - 0402)
pins: 1, 2

## RES_RMCF0402FT174K
designator R?, comment value 174K  Tolerance: 1%  Package: 0402  (hidden comment: RMCF0402FT174K)
RES -  174k ±1% 0.063W, 1/16W Chip Resistor 0402 (1005 Metric) Automotive AEC-Q200 Thick Film; Manufacturer #1: Stackpole Electronics Inc.; GRAMS Lib Spec: 2.8; Magnetic Material: Unknown; Polarized: No; Voltage Rating: 50V; Assembly Type: SMD; CreatedBy/Date: Philippe Arsenault/2021-04-11; Current Rating: *; HelpURL: https://www.seielect.com/catalog/sei-rmcf_rmcp.pdf; Manufacturer #2: *; Note: *; Part Number #1: RMCF0402FT174K; Part Number #2: *; Power Max: 1/16W; Temperature: -55°C ~ 155°C; VerifiedBy: Louis-Daniel Gaulin / 14-04-2021; Supplier 1: Digi-Key; Supplier Part Number 1: RMCF0402FT174KCT-ND
footprint RES_0402 (Resistor - 0402)
pins: 1, 2

## RES_RMCF0402FT200K
designator R?, comment value 200K  Tolerance: 1%  Package: 0402  (hidden comment: RMCF0402FT200K)
RES -  200k ±1% 0.063W, 1/16W Chip Resistor 0402 (1005 Metric) Automotive AEC-Q200 Thick Film; Manufacturer #1: Stackpole Electronics Inc.; GRAMS Lib Spec: 2.8; Magnetic Material: Unknown; Polarized: No; Voltage Rating: 50V; Assembly Type: SMD; CreatedBy/Date: Philippe Arsenault/2021-04-14; Current Rating: *; HelpURL: https://www.seielect.com/catalog/sei-rmcf_rmcp.pdf; Manufacturer #2: *; Note: *; Part Number #1: RMCF0402FT200K; Part Number #2: *; Power Max: 1/16W; Temperature: -55°C ~ 155°C; VerifiedBy: Louis-Daniel Gaulin / 14-04-2021; Supplier 1: Digi-Key; Supplier Part Number 1: RMCF0402FT200KCT-ND
footprint RES_0402 (Resistor - 0402)
pins: 1, 2

## RES_RMCF0402FT332K
designator R?, comment value 332K  Tolerance: 1%  Package: 0402  (hidden comment: RMCF0402FT332K)
RES -  332k ±1% 0.063W, 1/16W Chip Resistor 0402 (1005 Metric) Automotive AEC-Q200 Thick Film; Manufacturer #1: Stackpole Electronics Inc.; GRAMS Lib Spec: 2.8; Magnetic Material: Unknown; Polarized: No; Voltage Rating: 50V; Assembly Type: SMD; CreatedBy/Date: Philippe Arsenault/2021-04-11; Current Rating: *; HelpURL: https://www.seielect.com/catalog/sei-rmcf_rmcp.pdf; Manufacturer #2: *; Note: *; Part Number #1: RMCF0402FT332K; Part Number #2: *; Power Max: 1/16W; Temperature: -55°C ~ 155°C; VerifiedBy: Louis-Daniel Gaulin / 14-04-2021; Supplier 1: Digi-Key; Supplier Part Number 1: RMCF0402FT332KCT-ND
footprint RES_0402 (Resistor - 0402)
pins: 1, 2

## RES_RMCF0402FT374K
designator R?, comment value 374K  Tolerance: 1%  Package: 0402  (hidden comment: RMCF0402FT374K)
RES -  374k ±1% 0.063W, 1/16W Chip Resistor 0402 (1005 Metric) Automotive AEC-Q200 Thick Film; Manufacturer #1: Stackpole Electronics Inc.; GRAMS Lib Spec: 2.8; Magnetic Material: Unknown; Polarized: No; Voltage Rating: 50V; Assembly Type: SMD; CreatedBy/Date: Philippe Arsenault/2021-04-11; Current Rating: *; HelpURL: https://www.seielect.com/catalog/sei-rmcf_rmcp.pdf; Manufacturer #2: *; Note: *; Part Number #1: RMCF0402FT374K; Part Number #2: *; Power Max: 1/16W; Temperature: -55°C ~ 155°C; VerifiedBy: Louis-Daniel Gaulin / 14-04-2021; Supplier 1: Digi-Key; Supplier Part Number 1: RMCF0402FT374KCT-ND
footprint RES_0402 (Resistor - 0402)
pins: 1, 2

## RES_RMCF0402FT562R
designator R?, comment value 562R  Tolerance: 1%  Package: 0402  (hidden comment: RMCF0402FT562R)
RES - 562R ±1% 0.063W, 1/16W Chip Resistor 0402; Manufacturer #1: Stackpole Electronics Inc.; GRAMS Lib Spec: 2.8c; Magnetic Material: Unknown; Polarized: No; Voltage Rating: 50V; Assembly Type: SMD; CreatedBy/Date: Philippe Arsenault/2021-04-02; Current Rating: *; HelpURL: https://www.seielect.com/catalog/sei-rmcf_rmcp.pdf; Manufacturer #2: *; Note: *; Part Number #1: RMCF0402FT562R; Part Number #2: *; Power Max: 1/16W; Temperature: -55°C ~ 155°C; Supplier 1: Digi-Key; Supplier Part Number 1: RMCF0402FT562RCT-ND
footprint RES_0402 (Resistor - 0402)
pins: 1, 2

## RES_RT0402FRE07110RL
designator R?, comment value 110R  Tolerance: 1%  Package: 0402  (hidden comment: RT0402FRE07110RL)
RES - 110 Ohms ±1% 0.063W, 1/16W Chip Resistor 0402  (1005 Metric); Manufacturer #1: Yageo; GRAMS Lib Spec: 2.8c; Magnetic Material: Unknown; Polarized: No; Voltage Rating: 50V; Assembly Type: SMD; CreatedBy/Date: Philippe Arsenault/2021-02-08; Current Rating: *; HelpURL: https://www.yageo.com/upload/media/product/productsearch/datasheet/rchip/PYu-RT_1-to-0.01_RoHS_L_12.pdf; Manufacturer #2: *; Note: *; Part Number #1: RT0402FRE07110RL; Part Number #2: *; Power Max: 1/16W; Temperature: -55°C ~ 155°C; VerifiedBy: Hubert Dube - 19/03/2021; Supplier 1: Digi-Key; Supplier Part Number 1: 311-270LRCT-ND
footprint RES_0402 (Resistor - 0402)
pins: 1, 2

## RF_SH_BASE_36103205S
designator RF?, comment 36103205S
RF_SH -  BASE RF SHIELD 0.787" X 0.787" SMD; Manufacturer #1: Würth Elektronik; Value: 20x20x3mm; GRAMS Lib Spec: 2.8; Note: Buy with 36003200S; Magnetic Material: Unknown; Polarized: No; HelpURL: https://www.we-online.de/katalog/datasheet/36903205S.pdf; CreatedBy/Date: Philippe Arsenault/2021-04-17; VerifiedBy: Louis-Daniel Gaulin / 29-04-2021; Temperature: -40°C ~ 125°C; Assembly Type: SMD; Part Number #1: 36103205S; Supplier 1: Digi-Key; Supplier Part Number 1: 732-11540-1-ND
footprint RF_SH_BASE_36103205S (RF shield 20x20x3 base)
pins: 1 GND
text: RF Shield base

## RF_SH_COVER_36003200S
designator RF?, comment 36003200S  (mechanical)
RF_SH -  RF COVER 0.823" X 0.823" SMD; Manufacturer #1: Würth Elektronik; Value: 21x21x3mm; GRAMS Lib Spec: 2.8; Note: Buy with 36103205S; Magnetic Material: Unknown; Polarized: No; HelpURL: https://www.we-online.de/katalog/datasheet/36903205S.pdf; CreatedBy/Date: Philippe Arsenault/2021-04-17; VerifiedBy: Louis-Daniel Gaulin / 29-04-2021; Temperature: -40°C ~ 125°C; Assembly Type: SMD; Part Number #1: 36003200S; Supplier 1: Newark; Supplier Part Number 1: 37AC1129
footprint RF_SH_COVER_36003200S (RF shield 21x21x3 cover)
text: RF Shield cover

## RLY_EC2-12NU
designator K?, comment EC2-12NU
RLY - GENERAL PURPOSE DPDT 2A 12V - TH-8; Manufacturer #1: KEMET; Value: 5V Coil; Voltage Rating: 250VAC, 220VDC - Max; GRAMS Lib Spec: 2.8; Magnetic Material: YES; Cryo: UNKNOWN; Tolerance: *; Current Rating: 2A; Power Max: *; HelpURL: https://content.kemet.com/datasheets/KEM_R7002_EC2_EE2.pdf; CreatedBy/Date: Louis-Daniel Gaulin/02-03-2021; VerifiedBy: Philippe Arsenault/02-03-2021; Temperature: -40°C ~ 85°C; Manufacturer #2: *; Note: *; Assembly Type: TH; Part Number #2: *; Part Number #1: EC2-12NU; Supplier 1: Digi-Key; Supplier Part Number 1: 399-11029-5-ND; Polarized: YES; Package: 8-TH
footprint RLY_EC2-12NU
part A pins: 1 COIL+, 12 COIL-
part B pins: 3 NC1, 4 COM1, 5 NO1
part C pins: 8 NO2, 9 COM2, 10 NC2
part A text: +; -
part B text: NC; NO
part C text: NC; NO

## SEN_IMU_LSM6DSMTR
designator U?, comment LSM6DSMTR
SEN_IMU -  ACCEL/GYRO 6 Axis I2C/SPI - 14-VFLGA; Manufacturer #1: STMicroelectronics; Voltage Rating: 1.71V ~ 3.6V; Current Rating: 0.65mA; Power Max: 3mW; GRAMS Lib Spec: 2.7c; Magnetic Material: Unknown; Polarized: YES; Value: -; Tolerance: -; HelpURL: https://www.st.com/content/ccc/resource/technical/document/datasheet/76/27/cf/88/c5/03/42/6b/DM00218116.pdf/files/DM00218116.pdf/jcr:content/translations/en.DM00218116.pdf; CreatedBy/Date: Louis-Daniel Gaulin / 06-10-2020; VerifiedBy: Philippe Arsenault/2020-11-06; Temperature: -40°C ~ 85°C (TA); Package: 14-VFLGA; Manufacturer #2: -; Note: -; Assembly Type: SMD; Part Number #2: -; Part Number #1: LSM6DSMTR; Supplier 1: Digi-Key; Supplier Part Number 1: 497-16696-1-ND
footprint SEN_IMU_LSM6DSMTR
pins: 1 SDO/SA0, 2 SDx, 3 SCx, 4 INT1, 5 VDDIO, 6 GND, 7 GND, 8 VDD, 9 INT2, 10 OSC_Aux, 11 SDO_Aux, 12 CS, 13 SCL/SPC, 14 SDA/SDI
text: IMU

## SWI_500SDP1S1M2QEA
designator S?, comment 500SDP1S1M2QEA
SWI - SLIDE DPDT 5A 120V - TH; Manufacturer #1: E-Switch; Voltage Rating: 120VAC/28VDC; GRAMS Lib Spec: 2.8c; Magnetic Material: Unknown; Polarized: Yes; Value: DPDT; Tolerance: -; Current Rating: 5A; Power Max: -; HelpURL: https://sten-eswitch-13110800-production.s3.amazonaws.com/system/asset/product_line/data_sheet/115/500.pdf; CreatedBy/Date: Louis-Daniel Gaulin / 29-04-2021; VerifiedBy: Philippe Arsenault/ 2021-04-30; Temperature: -30°C ~ 85°C; Package: 12.7x11.43mm plastic; Manufacturer #2: -; Assembly Type: TH; Part Number #2: -; Part Number #1: 500SDP1S1M2QEA; Supplier 1: Digi-Key; Supplier Part Number 1: EG2475-ND; Cryo: UNKNOWN
footprint SWI_500SDP1S1M2QEA
pins: 1, 2, 3, 4, 5, 6
text: Slide

## SWI_L101011MS02Q
designator S?, comment L101011MS02Q
SWI - SLIDE SPST 4A 125V - TH; Manufacturer #1: C&K; Voltage Rating: 125VAC/28VDC; GRAMS Lib Spec: 2.8c; Magnetic Material: Unknown; Polarized: Yes; Value: SPST; Tolerance: -; Current Rating: 4A; Power Max: -; HelpURL: https://www.ckswitches.com/media/1423/l.pdf; CreatedBy/Date: Louis-Daniel Gaulin / 09-04-2021; VerifiedBy: Philippe Arsenault/ 2021-04-10; Temperature: -30°C ~ 65°C; Package: 10.79x19.10mm plastic; Manufacturer #2: -; Assembly Type: TH; Part Number #2: -; Part Number #1: L101011MS02Q; Supplier 1: Digi-Key; Supplier Part Number 1: CKC5106-ND; Cryo: UNKNOWN
footprint SWI_L101011MS02Q
pins: 1, 2
text: Slide

## SWI_L202011MS02Q
designator S?, comment L202011MS02Q
SWI - SLIDE DPDT 4A 125V - TH; Manufacturer #1: C&K; Voltage Rating: 125VAC/28VDC; GRAMS Lib Spec: 2.8c; Magnetic Material: Unknown; Polarized: Yes; Value: DPDT; Tolerance: -; Current Rating: 4A; Power Max: -; HelpURL: https://www.ckswitches.com/media/1423/l.pdf; CreatedBy/Date: Louis-Daniel Gaulin / 09-04-2021; VerifiedBy: Philippe Arsenault/2021-04-10; Temperature: -30°C ~ 65°C; Package: 10.79x19.10mm plastic; Manufacturer #2: -; Assembly Type: TH; Part Number #2: -; Part Number #1: L202011MS02Q; Supplier 1: Digi-Key; Supplier Part Number 1: CKC5100-ND; Cryo: UNKNOWN
footprint SWI_L202011MS02Q
pins: 1, 2, 3, 4, 5, 6
text: Slide

## SWI_TACT_435171014816
designator S?, comment 435171014816
SWI - SWITCH TACTILE SPST-NO 0.05A 12V -SMD; Manufacturer #1: Würth Elektronik; Current Rating: 50mA; Voltage rating: 12VDC; Polarized: No; Magnetic Material: UNKNOWN; GRAMS Lib Spec: 2.8; Manufacturer #2: *; Power Max: *; Value: SPST-NO; Part Number #1: 435171014816; Part Number #2: *; HelpURL: https://www.we-online.com/catalog/datasheet/435171014816.pdf; Supplier 1: Digi-Key; Supplier Part Number 1: 732-435171014816CT-ND; Assembly Type: SMD; Temperature: -40°C ~ 85°C; Package: SMD; CreatedBy/Date: Hubert Dube - 22/07/20; Tolerance: *; VerifiedBy: Louis-Daniel Gaulin / 12-11-2020; Cryo: UNKNOWN
footprint SWI_TACT_435171014816
pins: 1, 2, 3, 4

## THE_HS_ATS-CPX025025015-138-C2-R0
designator HS?, comment ATS-CPX025025015-138-C2-R0
THE_HS - Heat Sink  25x25x15 mm - TH M3; Manufacturer #1: Advanced Thermal Solutions Inc.; Power Max: 12.20 °C/W @ 100LFM; GRAMS Lib Spec: 2.8; Magnetic Material: Unknown; Polarized: No; HelpURL: https://www.qats.com/pushPIN/DataSheet/ATS-CPX025025015-138-C2-R0; CreatedBy/Date: Philippe Arsenault/2021-04-08; VerifiedBy: Louis-Daniel Gaulin / 14-04-2021; Package: 20x20x15mm; Assembly Type: M3 Screws; Part Number #1: ATS-CPX025025015-138-C2-R0; Supplier 1: Digi-Key; Supplier Part Number 1: ATS1516-ND
footprint THE_HS_ATS-CPX025025015-138-C2-R0 (25x25x15mm Heatsink)
pins: 1 MH1, 2 MH2
text: Heat sink; 25x25x15mm; 12.20°C/W @ 100LFM

## THE_HS_ATS-CPX025025015-138-C2-R0_NOMH
designator HS?, comment ATS-CPX025025015-138-C2-R0
THE_HS - Heat Sink  25x25x15 mm - TH M3; Manufacturer #1: Advanced Thermal Solutions Inc.; Power Max: 12.20 °C/W @ 100LFM; GRAMS Lib Spec: 2.8; Magnetic Material: Unknown; Polarized: No; HelpURL: https://www.qats.com/pushPIN/DataSheet/ATS-CPX025025015-138-C2-R0; CreatedBy/Date: Philippe Arsenault/2021-04-08; VerifiedBy: Louis-Daniel Gaulin / 14-04-2021; Package: 20x20x15mm; Assembly Type: M3 Screws; Part Number #1: ATS-CPX025025015-138-C2-R0; Supplier 1: Digi-Key; Supplier Part Number 1: ATS1516-ND
footprint THE_HS_ATS-CPX025025015-138-C2-R0_NOMH (25x25x15mm Heatsink)
text: Heat sink; 25x25x15mm; 12.20°C/W @ 100LFM; Mouting holes must be added

## TIM_BUF_PI6C49CB01Q3WEX
designator U?, comment PI6C49CB01Q3WEX
TIM_BUF - Clock Translator IC 1:1 LVDS-LVCMOS -  8-SOIC; Manufacturer #1: Diodes Incorporated; Voltage Rating: 2.375V ~ 2.625V, 3V ~ 3.6V; Current Rating: 35mA; Power Max: 126mW; GRAMS Lib Spec: 2.7; Magnetic Material: Unknown; Polarized: Yes; Value: 1:1; HelpURL: https://www.diodes.com/assets/Datasheets/PI6C49CB01Q.pdf; CreatedBy/Date: Philippe Arsenault/2021-03-26; VerifiedBy: Louis-Daniel Gaulin - 05/04/2021; Temperature: -40 to 85°C; Package: 8-SOIC; Assembly Type: SMD; Part Number #1: PI6C49CB01Q3WEX; Supplier 1: Digi-Key; Supplier Part Number 1: 31-PI6C49CB01Q3WEXCT-ND
footprint TIM_BUF_PI6C49CB01Q3WEX (SOIC-8)
pins: 1 NC, 2 CLK_P, 3 CLK_N, 4 NC, 5 GND, 6 NC, 7 CLK_O, 8 VDD

## TIM_FAN_SI53342-B-GM
designator U?, comment SI53342-B-GM
TIM_FAN -  Clock Fanout Buffer 1.25GHz , Multiplexer IC 2:6 - 24-VFQFN EP; Manufacturer #1: Silicon Labs; Voltage Rating: 1.71V ~ 3.63V; Current Rating: 121mA; GRAMS Lib Spec: 2.8; Magnetic Material: Unknown; Polarized: YES; Value: 2:6; HelpURL: https://www.silabs.com/documents/public/data-sheets/si5334x-datasheet.pdf; CreatedBy/Date: Philippe Arsenault/ 2021-04-01; Temperature: -40°C ~ 85°C; Package: 24-QFN; Assembly Type: SMD; Part Number #1: SI53342-B-GM; Supplier 1: Digi-Key; Supplier Part Number 1: 336-3840-ND
footprint TIM_FAN_SI53342-B-GM (QFN24)
pins: 1 OEAb, 2 Q1 -, 3 Q1 +, 4 Q0 -, 5 Q0 +, 6 VDD, 7 CLK0 +, 8 CLK0 -, 9 NC, 10 NC, 11 CLK1 +, 12 CLK1 -, 13 CLK_SEL, 14 Q5 -, 15 Q5 + , 16 Q4 -, 17 Q4 +, 18 OEBb, 19 VDDOB, 20 Q3 -, 21 Q3 +, 22 Q2 -, 23 Q2 +, 24 VDDOA, 25 PAD
text: BANK A; 0; BANK B

## TIM_MUX_DS25CP102TSQ/NOPB
designator U?, comment DS25CP102TSQ/NOPB
TIM_MUX - Crosspoint Switch 1 x 2:2 3.125Gbps - 16-WQFN (4x4); Manufacturer #1: Texas Instrument; Value: 1x2:2; Voltage Rating: 3V ~ 3.6V; Current Rating: 90mA; Power Max: 180mW; GRAMS Lib Spec: 2.8; Magnetic Material: UNKNOWN; Polarized: YES; HelpURL: https://www.ti.com/lit/ds/symlink/ds25cp102.pdf?HQS=dis-dk-null-digikeymode-dsf-pf-null-wwe&ts=1617306001217; CreatedBy/Date: Philippe Arsenault/2021-04-01; VerifiedBy: Louis-Daniel Gaulin / 08-04-2021; Temperature: -40°C ~ 85°C; Package: 16-WQFN; Assembly Type: SMD; Part Number #1: DS25CP102TSQ/NOPB; Supplier 1: Digi-Key; Supplier Part Number 1: DS25CP102TSQ/NOPBCT-ND
footprint TIM_MUX_DS25CP102TSQ/NOPB (WQFN-16)
pins: 1 IN0+, 2 IN0-, 3 IN1+, 4 IN1-, 5 GND, 6 EQ, 7 SEL0, 8 SEL1, 9 OUT1-, 10 OUT1+, 11 OUT0-, 12 OUT0+, 13 EN1, 14 EN0, 15 PE, 16 VCC, 17 PAD
text: 100R

## TPO_5011
designator TP?, comment 5011  Supplier Part Number 1: 36-5011-ND
TPO - TEST POINT - TH; Manufacturer #1: Keystone Electronics; Polarized: No; Magnetic Material: UNKNOWN; GRAMS Lib Spec: 2.8; Current Rating: *; Manufacturer #2: *; Note: *; Power Max: *; Value: *; Part Number #1: 5011; Part Number #2: *; HelpURL: https://www.keyelco.com/userAssets/file/M65p56.pdf; Assembly Type: TH; Package: *; CreatedBy/Date: Louis-Daniel Gauli / 02-11-2020; Temperature: *; Tolerance: *; VerifiedBy: Philippe Arsenault/2020-11-06; Voltage Rating: *; Cryo: UNKNOWN; Supplier 1: Digi-Key
footprint TPO_5011
pins: 1

## TPO_TH_ROUND_0.7mm_DOUBLE
designator TP?, comment TH ROUND 0.7mm DOUBLE  (no BOM)
TPO - TH round 0.7mm double - 2-SMD; GRAMS Lib Spec: 2.8; Tolerance: -; Voltage Rating: -; Current Rating: -; Power Max: -; HelpURL: -; CreatedBy/Date: Philippe Arsenault / 20-04-2021; VerifiedBy: Louis-Daniel Gaulin / 29-04-2021; Temperature: -; Package: 2-SMD; Manufacturer #1: -; Manufacturer #2: -; Note: -; Assembly Type: TH; Part Number #2: -; Part Number #1: -; Magnetic Material: -; Polarized: -; Supplier 1: -; Supplier Part Number 1: -
footprint TPO_TH_ROUND_0.7mm_DOUBLE (Double via TP)
pins: 1, 2

## TRX_PMOS_SI2369DS-T1-GE3
designator Q?, comment SI2369DS-T1-GE3
TRX - PMOS 30V 7.6A - SOT−23; Manufacturer #1: Vishay Siliconix; GRAMS Lib Spec: 2.8; Magnetic Material: Unknown; Polarized: Yes; Power Max: 1.25W; Assembly Type: SMD; CreatedBy/Date: Louis-Daniel Gaulin / 30-07-2020; Current Rating: 7.6A; HelpURL: https://www.vishay.com/docs/62865/si2369d.pdf; Manufacturer #2: *; Package: SOT-23; Part Number #1: SI2369DS-T1-GE3; Part Number #2: *; Supplier 1: Digi-Key; Supplier Part Number 1: SI2369DS-T1-GE3CT-ND; Temperature: -55°C ~ 150°C; Tolerance: *; Value: *; VerifiedBy: Philippe Arsenault/2020-11-06; Voltage Rating: 30V; Cryo: UNKNOWN
footprint TRX_PMOS_SI2369DS-T1-GE3
pins: 1 G, 2 S, 3 D

## TVS_DATA_STZU6.2NT146
designator D?, comment STZU6.2NT146  Voltage Rating: 5.5V
TVS - TVS DIODE 5.5V 5.9V - SOT-23-3; Manufacturer #1: Rohm Semiconductor; Power Max: 0.2W; GRAMS Lib Spec: 2.8; Magnetic Material: Unknown; Polarized: No; Value: *; Tolerance: *; Current Rating: *; HelpURL: https://d1d2qsbl8m0m72.cloudfront.net/en/products/databook/datasheet/discrete/diode/zener/stzu6.2nt146-e.pdf; CreatedBy/Date: Louis-Daniel Gaulin / 02-03-2021; VerifiedBy: Philippe Arsenault / 02-03-2021; Temperature: 150°C (TJ)/ -55 to 150°C (ST); Package: SOT-23-3; Manufacturer #2: *; Note: *; Assembly Type: SMD; Part Number #2: *; Part Number #1: STZU6.2NT146; Supplier 1: Digi-Key; Supplier Part Number 1: 846-STZU6.2NT146CT-ND; Cryo: UNKNOWN
footprint TVS_DATA_STZU6.2NT146 (SOT23, 3-Leads, Body 2.90x2.80mm, Pitch 0.95mm, IPC Medium Density)
pins: 1 K1, 2 K2, 3 A

## TVS_PWR_SMBJ5.0A
designator D?, comment SMBJ5.0A
TVS - BIDIR 5V 9.2V 600W - DO214AA; Manufacturer #1: Littelfuse Inc.; Value: Vbr = 6.4V -  Clamp = 9.2V; Voltage Rating: 5V Standoff; Current Rating: 100A (peak); Power Max: 600W (Pppm); GRAMS Lib Spec: 2.8c; Magnetic Material: UNKNOWN; Polarized: YES; Tolerance: *; HelpURL: https://www.littelfuse.com/~/media/electronics/datasheets/tvs_diodes/littelfuse_tvs_diode_smbj_datasheet.pdf.pdf; CreatedBy/Date: Louis-Daniel Gaulin / 13-04-2021; VerifiedBy: Philippe Arsenault/2021-04-14; Temperature: -65°C ~ 150°C (TJ); Package: DO214AA; Manufacturer #2: *; Note: *; Assembly Type: SMD; Part Number #2: *; Part Number #1: SMBJ5.0A; Supplier 1: Digi-Key; Supplier Part Number 1: SMBJ5.0ALFCT-ND; Cryo: UNKNOWN
footprint TVS_PWR_SMBJ5.0CA (Molded Diode, 2-Leads, Body 4,40x3,62mm, IPC Medium Density)
pins: 1, 2

## TVS_SMDA03CTR
designator D?, comment SMDA03CTR
TVS - TVS DIODE 3.3V 7V - 8-SOIC; Manufacturer #1: SMC Diode Solutions; Power Max: 300W (Peak); Value: 4 bidirectionnal channels; Voltage rating: 3V3; Polarized: YES; Magnetic Material: UNKNOWN; GRAMS Lib Spec: 2.8; Current Rating: *; Manufacturer #2: *; Part Number #1: SMDA03CTR; Part Number #2: *; HelpURL: http://www.smc-diodes.com/propdf/SMDA03C%20THRU%20SMDA24C%20N0297%20REV.B.pdf; Note: *; Assembly Type: SMD; Temperature: -55°C ~ 125°C; Package: 8-SOIC; CreatedBy/Date: Hubert Dube - 3/10/20; Tolerance: *; VerifiedBy: Louis-Daniel Gaulin; Cryo: UNKNOWN; Supplier 1: Digi-Key; Supplier Part Number 1: 1655-1699-1-ND
footprint TVS_SMDA03CTR (TVS - TVS DIODE 3.3V 7V - 8-SOIC)
pins: 1, 2, 3, 4, 5, 6, 7, 8

## UND_LS_CMI-1295-0585T
designator LS?, comment CMI-1295-0585T
LS - Buzzer indicator 5V 30mA 2.3kHz 85dB - TH; Manufacturer #1: CUI Devices; Value: 85dB @ 5V, 10cm; Voltage Rating: 4 ~ 7V; GRAMS Lib Spec: 2.8; Magnetic Material: Unknown; Polarized: Yes; Tolerance: -; Current Rating: 30 mA; Power Max: -; HelpURL: https://www.cuidevices.com/product/resource/cmi-1295-0585t.pdf; CreatedBy/Date: Louis-Daniel Gaulin / 24-02-2021; VerifiedBy: Hubert Dube - 26/02/2021; Temperature: -40°C ~ 85°C; Package: TH; Manufacturer #2: -; Assembly Type: TH; Part Number #2: -; Part Number #1: CMI-1295-0585T; Supplier 1: Digi-Key; Supplier Part Number 1: 102-CMI-1295-0585T-ND; Cryo: UNKNOWN
footprint UND_SPK_CMI-1295-0585T
pins: 1 +, 2 -

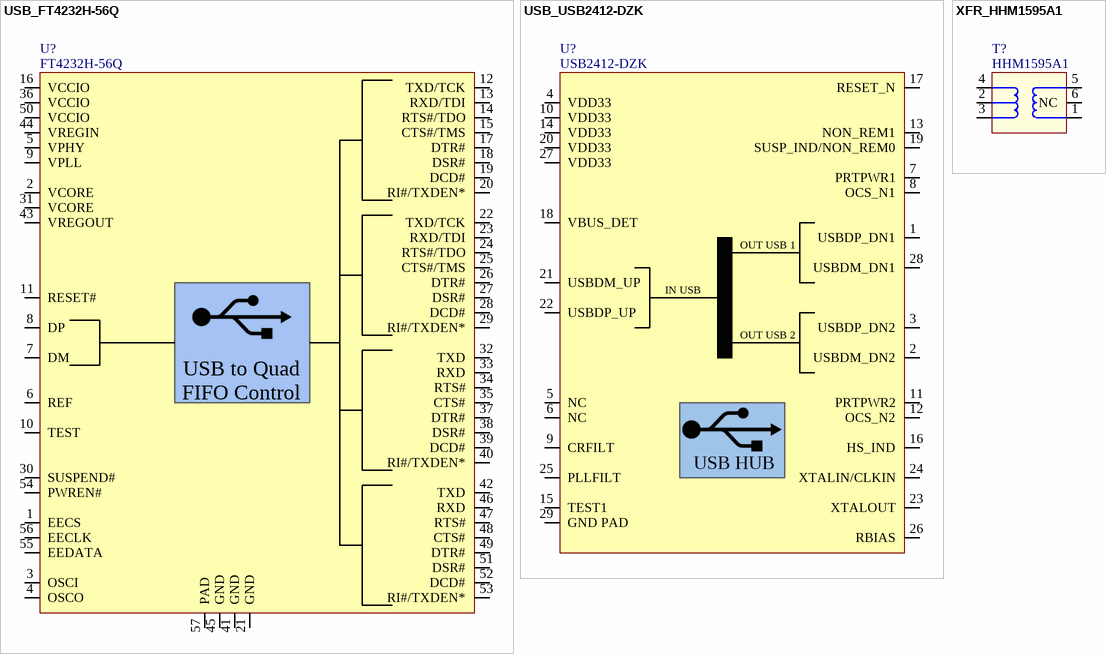
[diagram p6: symbols USB_FT4232H-56Q to XFR_HHM1595A1]